# Altium footprint library Footprints.PcbLib: 21 footprints (part 2 of 2)
Each footprint in its own frame and in the unit in brackets; x right, y up, seen from the top. Pads: shape width x height; smd on the part's side, far side on the other; paste and mask are expansions set on the pad; w line width, h text height; cw(c..) or ccw(c..) is an arc to the next point about the centre after c.
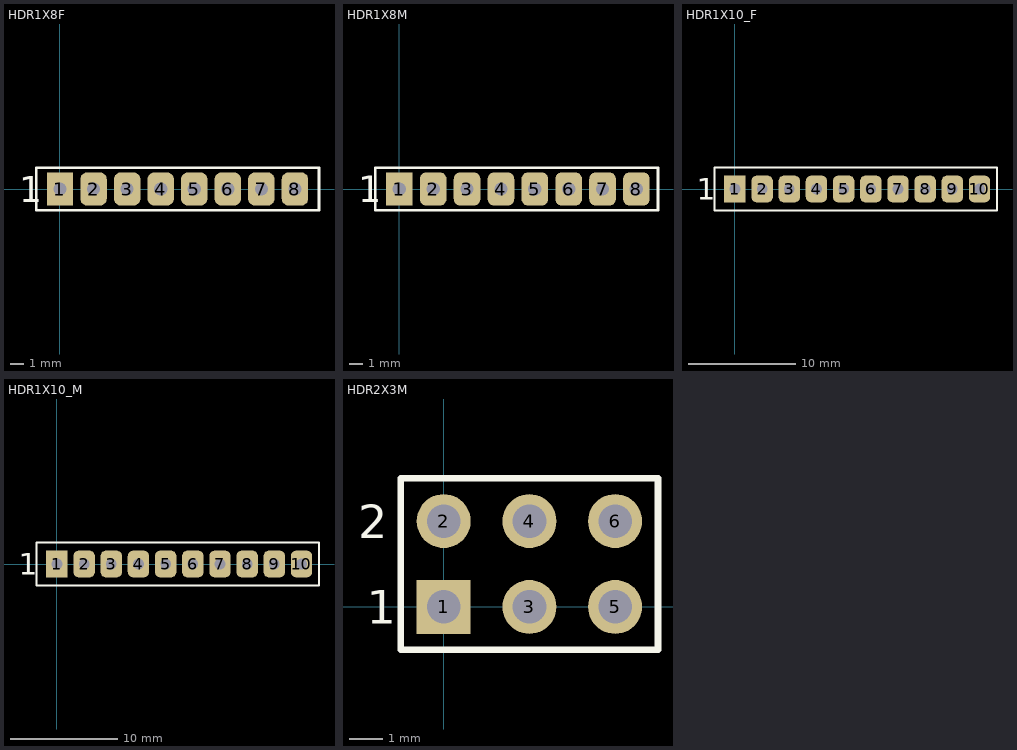
[diagram p1: the footprints below, top view; thin cyan lines are the x and y axes]

## HDR1X8F [mm] "Connector; Header; 8 Position"
pads (8):
  rect 2x2.5 hole 1: 1(0,0)
  rrect50% 2x2.5 hole 1: 2(2.54,0) 3(5.08,0) 4(7.62,0) 5(10.16,0) 6(12.7,0) 7(15.24,0) 8(17.78,0)
Top Overlay:
  lines w0.2: -1.8,-1.6 19.6,-1.6 19.6,1.6 -1.8,1.6 -1.8,-1.6
  text "1" at -3.1,-1 h2
3D body "User Library-Header _Fem_1X8.step": height 8.55, standoff -3.15, extent -1.52,-1.27 19.3,1.27

## HDR1X8M [mm] "Connector; Header; 8 Position"
pads (8):
  rect 2x2.5 hole 1: 1(0,0)
  rrect50% 2x2.5 hole 1: 2(2.54,0) 3(5.08,0) 4(7.62,0) 5(10.16,0) 6(12.7,0) 7(15.24,0) 8(17.78,0)
Top Overlay:
  lines w0.2: -1.8,-1.6 19.4,-1.6 19.4,1.6 -1.8,1.6 -1.8,-1.6
  text "1" at -3.1,-1 h2
3D body "1x8 Male Pin Header.STEP": height 2, standoff -11.54, extent -1.363,-1.3 18.963,1.2

## HDR1X10_F [mm] "Connector; Header; 10 Position"
pads (10):
  rect 2x2.5 hole 1: 1(0,0)
  rrect50% 2x2.5 hole 1: 2(2.54,0) 3(5.08,0) 4(7.62,0) 5(10.16,0) 6(12.7,0) 7(15.24,0) 8(17.78,0) 9(20.32,0) 10(22.86,0)
Top Overlay:
  lines w0.2: -1.9,-2 -1.9,2 1.365,2 24.5,2 24.5,-2 -1.9,-2
  text "1" at -3.546,-0.996 h2
3D body "10-Pin Header - Female - 2.54mm.step": height 5.5, standoff -2.5, extent -1.65,-1.25 24.25,1.25

## HDR1X10_M [mm] "Connector; Header; 10 Position"
pads (10):
  rect 2x2.5 hole 1: 1(0,0)
  rrect50% 2x2.5 hole 1: 2(2.54,0) 3(5.08,0) 4(7.62,0) 5(10.16,0) 6(12.7,0) 7(15.24,0) 8(17.78,0) 9(20.32,0) 10(22.86,0)
Top Overlay:
  lines w0.2: -1.9,-2 -1.9,2 1.365,2 24.5,2 24.5,-2 -1.9,-2
  text "1" at -3.546,-0.996 h2
3D body "1x10 Male Pin Header.STEP": height 2, standoff -11.54, extent -1.402,-1.25 24.003,1.25

## HDR2X3M [mm] "Connector; Header; 3x2 Position"
pads (6):
  rect 1.6x1.6 hole 1: 1(0,0)
  round 1.6 hole 1: 2(0,2.54) 3(2.54,0) 4(2.54,2.54) 5(5.08,0) 6(5.08,2.54)
Top Overlay:
  lines w0.2: 1.482,-1.27 6.35,-1.27 ; 6.35,-1.27 -1.27,-1.27 -1.27,3.81 6.35,3.81 6.35,-1.27
  text "1" at -2.286,-0.508 h1
  text "2" at -2.54,2.032 h1
3D body "User Library-2x3 Header.step": height 8.5, standoff -3, extent -1.27,-1.27 6.35,3.77